# Altium footprint library PcbLib1.PcbLib: 29 footprints (part 1 of 2)
Each footprint in its own frame and in the unit in brackets; x right, y up, seen from the top. Pads: shape width x height; smd on the part's side, far side on the other; paste and mask are expansions set on the pad; w line width, h text height; cw(c..) or ccw(c..) is an arc to the next point about the centre after c.
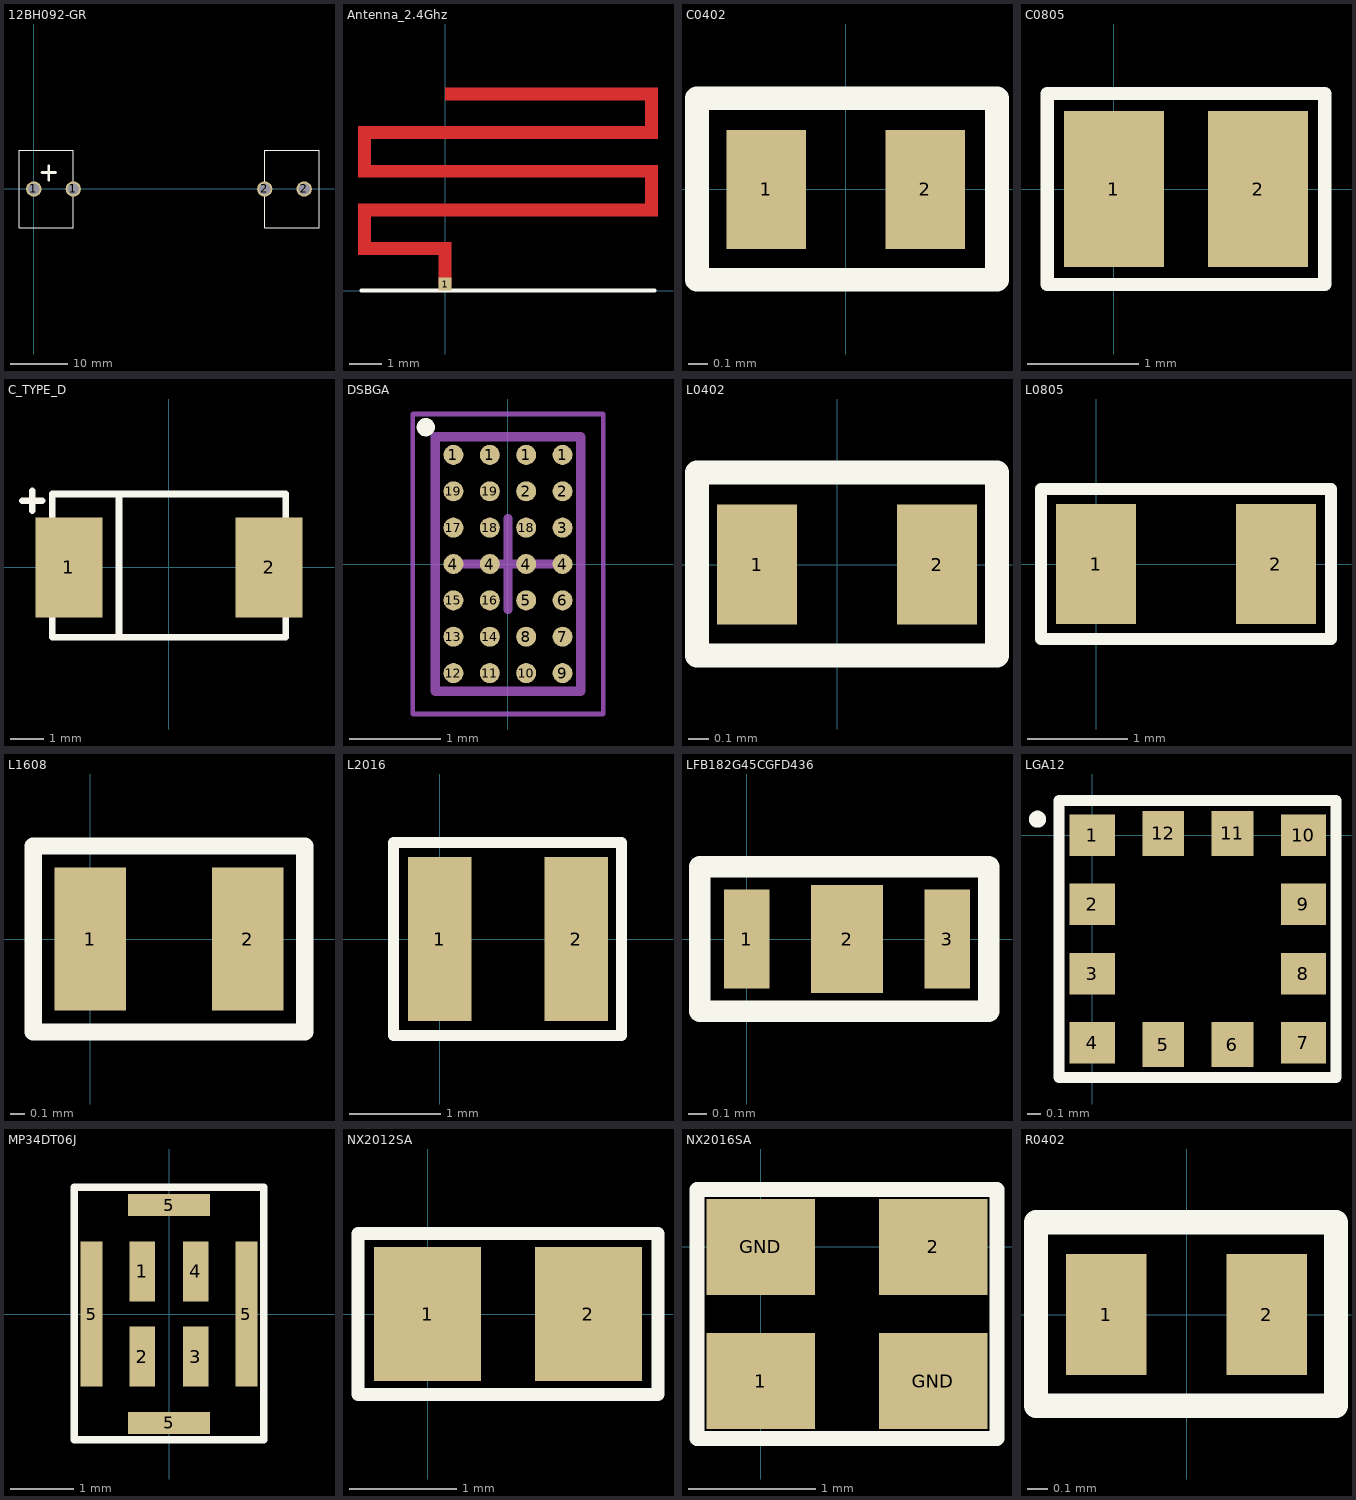
[diagram p0: the footprints below, top view; thin cyan lines are the x and y axes]

## 12BH092-GR [mm]
pads (4):
  round 2.7 hole 2: 1(0,0) 1(6.9,0) 2(40.4,0) 2(47.3,0)
Top Overlay:
  lines w0.2: -2.6,-6.8 -2.6,6.8 6.9,6.8 6.9,-6.8 -2.6,-6.8 ; 40.4,-6.8 49.9,-6.8 49.9,6.8 40.4,6.8 40.4,-6.8
  lines w0.5: 1.4,2.9 3.8,2.9 ; 2.6,1.6 2.6,4

## Antenna_2.4Ghz [mm]
pads (1):
  rect 0.4x0.4 smd: 1(0,0.2)
Top Layer:
  rectangle: 0,5.9 0.4,6.3
  rectangle: 6.2,5.9 6.6,6.3
  rectangle: 6.2,4.7 6.6,5.1
  rectangle: -2.7,4.7 -2.3,5.1
  rectangle: -2.7,3.5 -2.3,3.9
  rectangle: 6.2,3.5 6.6,3.9
  rectangle: 6.2,2.3 6.6,2.7
  rectangle: -2.7,2.3 -2.3,2.7
  rectangle: -2.7,1.1 -2.3,1.5
  rectangle: -0.2,1.1 0.2,1.5
  lines w0.4: 0,0.2 0,1.3 -2.5,1.3 -2.5,2.5 6.4,2.5 6.4,3.7 -2.5,3.7 -2.5,4.9 6.4,4.9 6.4,6.1 0.2,6.1
Top Overlay:
  lines w0.12: -2.6,0 6.5,0

## C0402 [mm]
pads (2):
  rect 0.4x0.6 smd: 1(-0.4,0) 2(0.4,0)
Top Overlay:
  lines w0.12: -0.749,-0.454 0.76,-0.454 0.76,0.459 -0.749,0.459 -0.749,-0.454

## C0805 [mm]
pads (2):
  rect 0.9x1.4 smd: 1(0,0) 2(1.3,0)
Top Overlay:
  lines w0.12: -0.6,-0.86 -0.6,0.86 1.9,0.86 1.9,-0.86 -0.6,-0.86

## C_TYPE_D [mm]
pads (2):
  rect 2x3 smd: 1(-3,0) 2(3,0)
Top Overlay:
  lines w0.2: -4.4,2 -3.8,2 ; -4.1,1.7 -4.1,2.3 ; -1.6,2.2 -1.5,2.2 -1.5,-2 ; -3.5,-2.1 -3.5,2.2 3.5,2.2 3.5,-2.1 -3.5,-2.1

## DSBGA [mm] "DSBGA"
height 0.19
pads (28):
  round 0.22 smd: 1(-0.6,1.2) 1(-0.2,1.2) 1(0.2,1.2) 1(0.6,1.2) 2(0.2,0.8) 2(0.6,0.8) 3(0.6,0.4) 4(-0.6,0) 4(-0.2,0) 4(0.2,0) 4(0.6,0) 5(0.2,-0.4) 6(0.6,-0.4) 7(0.6,-0.8) 8(0.2,-0.8) 9(0.6,-1.2) 10(0.2,-1.2) 11(-0.2,-1.2) 12(-0.6,-1.2) 13(-0.6,-0.8) 14(-0.2,-0.8) 15(-0.6,-0.4) 16(-0.2,-0.4) 17(-0.6,0.4) 18(-0.2,0.4) 18(0.2,0.4) 19(-0.6,0.8) 19(-0.2,0.8)
Top Overlay:
  circle w0.1: c-0.905,1.505 r0.05
Mechanical 13:
  lines w0.1: -0.8,-1.4 -0.8,1.4 0.8,1.4 0.8,-1.4 -0.8,-1.4
Mechanical 15:
  lines w0.05: -1.05,-1.65 -1.05,1.65 1.05,1.65 1.05,-1.65 -1.05,-1.65
  lines w0.1: -0.5,0 0.5,0 ; 0,-0.5 0,0.5
3D body: height 0.19, standoff 0.3, extent -0.8,-1.4 0.8,1.4

## L0402 [mm]
pads (2):
  rect 0.4x0.6 smd: 1(-0.4,0) 2(0.5,0)
Top Overlay:
  lines w0.12: -0.7,-0.454 0.8,-0.454 0.8,0.459 -0.7,0.459 -0.7,-0.454

## L0805 [mm]
pads (2):
  rect 0.8x1.2 smd: 1(0,0) 2(1.8,0)
Top Overlay:
  lines w0.12: -0.55,-0.75 -0.55,0.75 2.35,0.75 2.35,-0.75 -0.55,-0.75

## L1608 [mm]
pads (2):
  rect 0.5x1 smd: 1(0,0) 2(1.1,0)
Top Overlay:
  lines w0.12: -0.4,-0.65 -0.4,0.65 1.5,0.65 1.5,-0.65 -0.4,-0.65

## L2016 [mm]
pads (2):
  rect 0.7x1.8 smd: 1(0,0) 2(1.5,0)
Top Overlay:
  lines w0.12: -0.51,-1.06 2,-1.06 2,1.06 -0.51,1.06 -0.51,-1.06

## LFB182G45CGFD436 [mm]
pads (3):
  rect 0.25x0.55 smd: 1(0,0) 3(1.11,0)
  rect 0.4x0.6 smd: 2(0.555,0)
Top Overlay:
  lines w0.12: -0.26,-0.4 -0.26,0.4 1.34,0.4 1.34,-0.4 -0.26,-0.4

## LGA12 [mm]
pads (12):
  rect 0.325x0.3 smd: 1(0,0) 2(0,-0.5) 3(0,-1) 4(0,-1.5) 7(1.525,-1.5) 8(1.525,-1) 9(1.525,-0.5) 10(1.525,0)
  rect 0.3x0.325 smd: 5(0.513,-1.512) 6(1.012,-1.512) 11(1.012,0.012) 12(0.513,0.012)
Top Overlay:
  circle w0.1: c-0.395,0.115 r0.011
  lines w0.08: -0.24,-1.75 1.76,-1.75 1.76,0.25 -0.24,0.25 -0.24,-1.75

## MP34DT06J [mm]
pads (8):
  rect 0.4x0.95 smd: 1(-0.425,0.675) 2(-0.425,-0.675) 3(0.425,-0.675) 4(0.425,0.675)
  rect 0.35x2.3 smd: 5(-1.225,0) 5(1.225,0)
  rect 1.3x0.35 smd: 5(0,-1.725) 5(0,1.725)
Top Overlay:
  lines w0.12: -1.5,-1.99 -1.5,2.01 1.5,2.01 1.5,-1.99 -1.5,-1.99

## NX2012SA [mm]
pads (2):
  rect 1x1.25 smd: 1(0,0) 2(1.5,0)
Top Overlay:
  lines w0.12: -0.65,-0.75 2.15,-0.75 2.15,0.75 -0.65,0.75 -0.65,-0.75

## NX2016SA [mm]
pads (4):
  rect 0.85x0.75 smd: 1(0,-1.05) 2(1.35,0) GND(0,0) GND(1.35,-1.05)
Top Overlay:
  lines w0.12: -0.5,-1.5 -0.5,0.45 1.85,0.45 1.85,-1.5 -0.5,-1.5

## R0402 [mm]
pads (2):
  rect 0.4x0.6 smd: 1(-0.4,0) 2(0.4,0)
Top Overlay:
  lines w0.12: -0.749,-0.454 -0.749,0.459 0.744,0.459 0.744,-0.454 -0.749,-0.454